# Altium footprint library SOIC127P600X180-16N.PcbLib: 1 footprints
Each footprint in its own frame and in the unit in brackets; x right, y up, seen from the top. Pads: shape width x height; smd on the part's side, far side on the other; paste and mask are expansions set on the pad; w line width, h text height; cw(c..) or ccw(c..) is an arc to the next point about the centre after c.
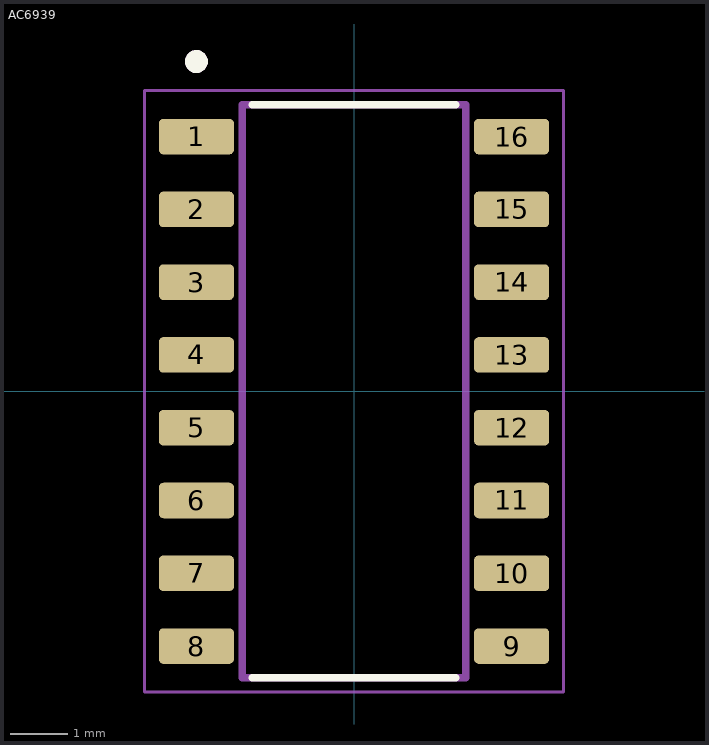
[diagram p0: the footprint, top view; thin cyan lines are the x and y axes]

## AC6939 [mm] "Bluetooth Audio IC"
height 1.8
pads (16):
  rrect25% 1.31x0.62 smd: 1(-2.75,4.445) 2(-2.75,3.175) 3(-2.75,1.905) 4(-2.75,0.635) 5(-2.75,-0.635) 6(-2.75,-1.905) 7(-2.75,-3.175) 8(-2.75,-4.445) 9(2.75,-4.445) 10(2.75,-3.175) 11(2.75,-1.905) 12(2.75,-0.635) 13(2.75,0.635) 14(2.75,1.905) 15(2.75,3.175) 16(2.75,4.445)
Top Overlay:
  circle w0.2: c-2.75,5.755 r0.1
  lines w0.127: -1.775,-5 1.775,-5 ; -1.775,5 1.775,5
Mechanical 13:
  circle w0.2: c-2.75,5.755 r0.1
  lines w0.127: -1.95,-5 1.95,-5 1.95,5 -1.95,5 -1.95,-5
Mechanical 15:
  lines w0.05: -3.655,-5.25 3.655,-5.25 3.655,5.25 -3.655,5.25 -3.655,-5.25
3D body "step_temp.STEP": height 1.8, standoff 0, extent -3,-5 3,5